# Altium footprint library SIP-8.PcbLib: 1 footprints
Each footprint in its own frame and in the unit in brackets; x right, y up, seen from the top. Pads: shape width x height; smd on the part's side, far side on the other; paste and mask are expansions set on the pad; w line width, h text height; cw(c..) or ccw(c..) is an arc to the next point about the centre after c.
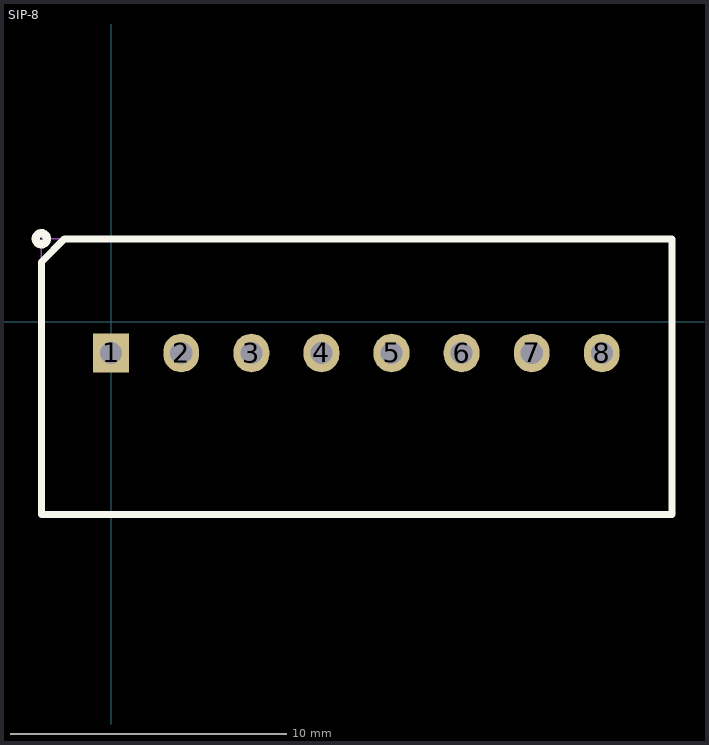
[diagram p0: the footprint, top view; thin cyan lines are the x and y axes]

## SIP-8 [mm]
pads (8):
  rect 1.3x1.4 hole 0.8: 1(-0.01,-1.138)
  oval 1.3x1.4 hole 0.8: 2(2.53,-1.138) 3(5.07,-1.138) 4(7.61,-1.138) 5(10.15,-1.138) 6(12.69,-1.138) 7(15.23,-1.138) 8(17.77,-1.138)
Top Overlay:
  circle w0.3: c-2.54,3 r0.2
  lines w0.254: -2.54,-7 20.32,-7 20.32,3 -1.7,3 -2.54,2.16 -2.54,-7
Mechanical 15:
  lines w0.05: -2.54,2.982 -2.54,-7 20.32,-7 20.32,2.982 ; -2.54,3 20.32,3
3D body "TMR 3-2410.STEP": height 11.21, standoff -4.09, extent -2.02,-6.964 19.78,2.136